# Altium footprint library JL-241J_NEMA.PcbLib: 1 footprints
Each footprint in its own frame and in the unit in brackets; x right, y up, seen from the top. Pads: shape width x height; smd on the part's side, far side on the other; paste and mask are expansions set on the pad; w line width, h text height; cw(c..) or ccw(c..) is an arc to the next point about the centre after c.
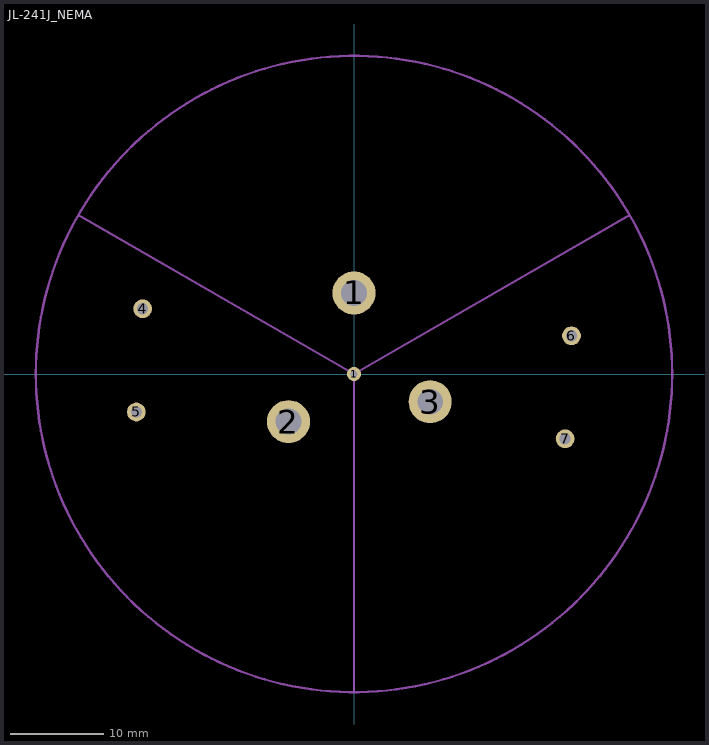
[diagram p0: the footprint, top view; thin cyan lines are the x and y axes]

## JL-241J_NEMA [mm]
pads (8):
  round 1.524 hole 0.762: 1(0,0)
  round 4.6 hole 2.75: 1(0,8.657) 2(-7.004,-5.088) 3(8.135,-2.961)
  round 2 hole 1.2: 4(-22.59,6.971) 5(-23.254,-4.06) 6(23.239,4.081) 7(22.558,-6.923)
Mechanical 1:
  lines w0.254: -29.445,17 0,0 ; 0,-34 0,0 ; 29.445,17 0,0
  text "OPTIONAL / BROWN WIRE" at 34.631,-13.208 h1.52
  text "OPTIONAL / ORANGE WIRE" at 36.703,4.953 h1.52
  text "(-) DIMMING / GREY WIRE" at -48.641,-8.509 h1.52
  text "(+) DIMMING / VIOLET WIRE" at -49.149,4.953 h1.52
  text "NEUTRAL / WHITE WIRE" at -38.862,-35.687 h1.52
  text "LOAD / RED WIRE" at 36.195,-4.699 h1.52
  text "LINE / BLACK WIRE" at -8.763,35.941 h1.52
Mechanical 4:
  circle w0.254: c0,0 r34